# Altium schematic symbol library button_red_3x6.SchLib: 1 symbol
Pins are listed as number, name and electrical type; pins without a type are passive.

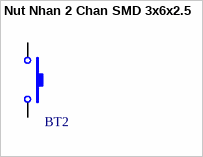
[diagram p0: symbol Nut Nhan 2 Chan SMD 3x6x2.5]

## Nut Nhan 2 Chan SMD 3x6x2.5
designator BT2  (value not drawn)
Ma_Hang: MH001036; Ten: Nút Nhấn 2 Chân 3x6x2.5MM SMD
footprint PCBComponent_1
pins: 1, 2